# Altium footprint library PCB_OpenT12_精简_2021-10-27.PcbLib: 36 footprints (part 2 of 3)
Each footprint in its own frame and in the unit in brackets; x right, y up, seen from the top. Pads: shape width x height; smd on the part's side, far side on the other; paste and mask are expansions set on the pad; w line width, h text height; cw(c..) or ccw(c..) is an arc to the next point about the centre after c.
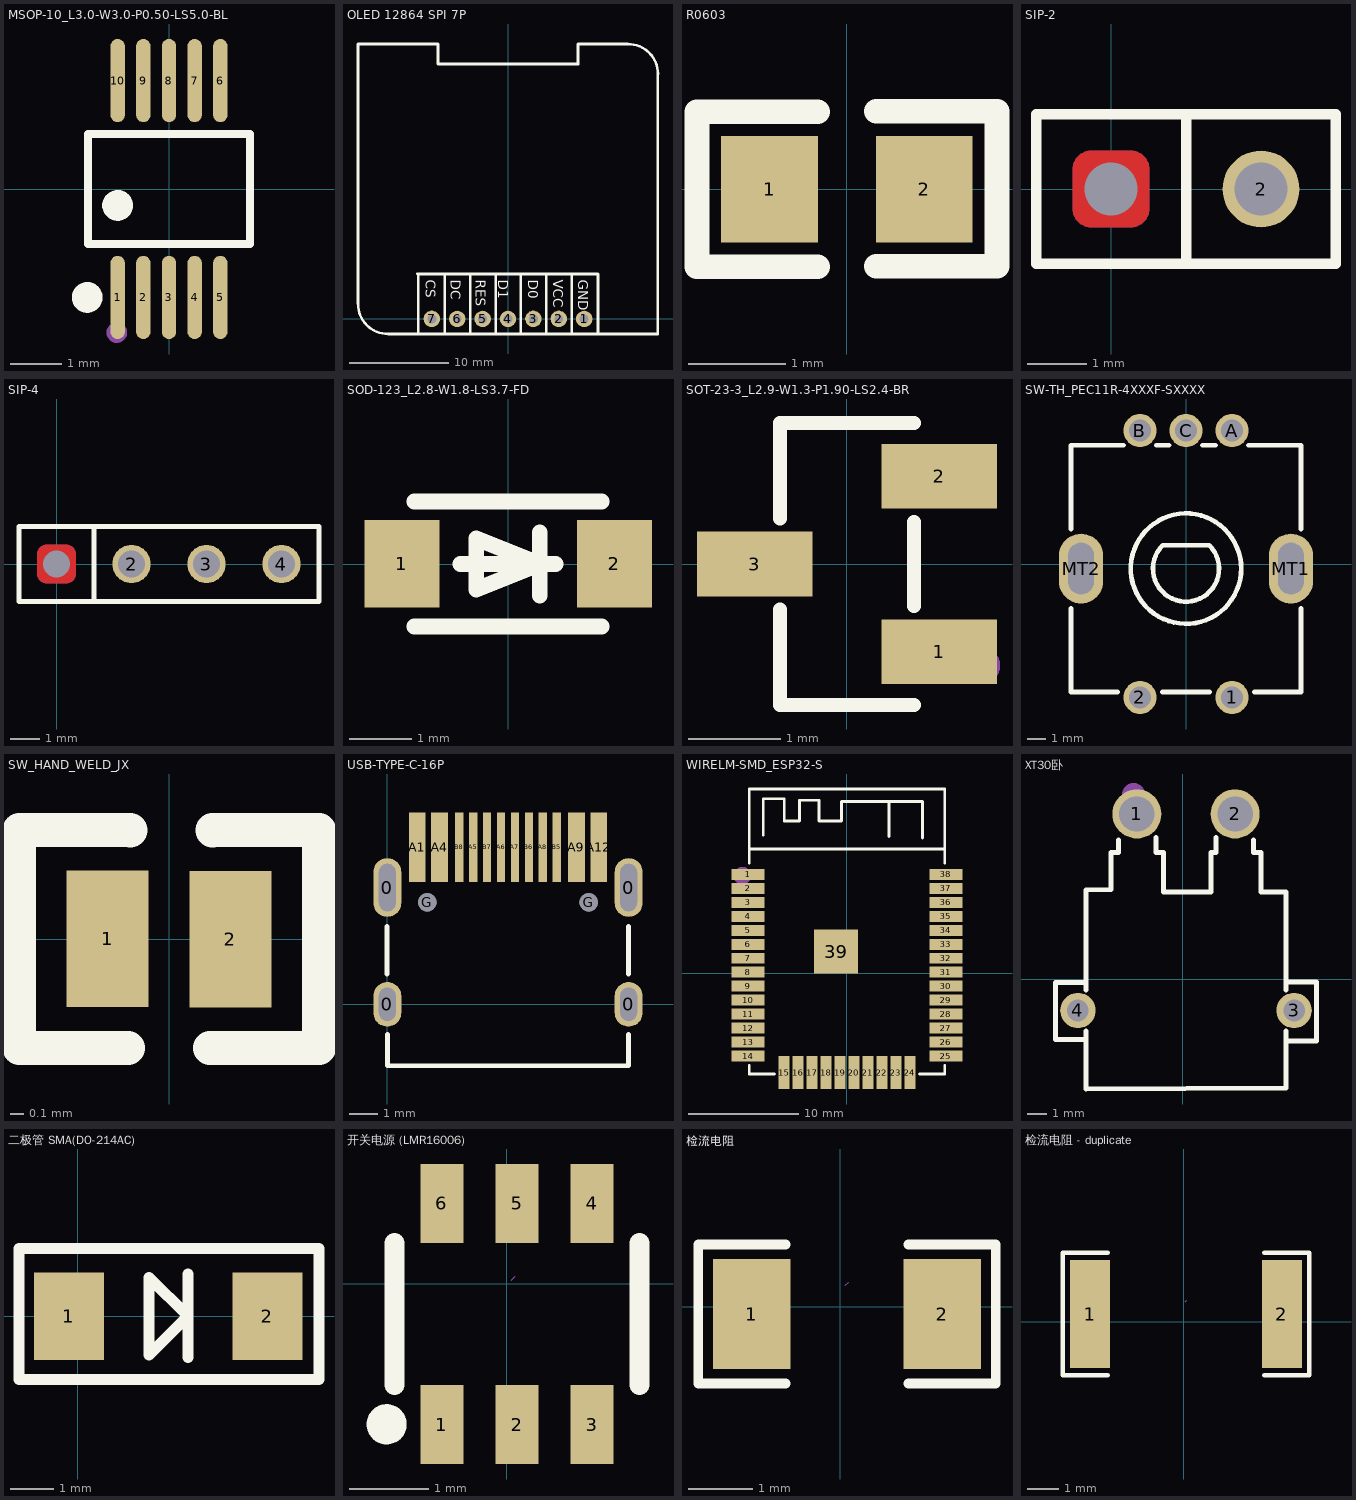
[diagram p1: the footprints below, top view; thin cyan lines are the x and y axes]

## MSOP-10_L3.0-W3.0-P0.50-LS5.0-BL [mm]
pads (10):
  oval 0.28x1.62 smd: 1(-1,-2.11) 2(-0.5,-2.11) 3(0,-2.11) 4(0.5,-2.11) 5(1,-2.11) 6(1,2.11) 7(0.5,2.11) 8(0,2.11) 9(-0.5,2.11) 10(-1,2.11)
Top Overlay:
  circle w0.3: c-1.592,-2.11 r0.15
  circle w0.3: c-1,-0.319 r0.15
  lines w0.152: -1.576,-1.071 1.576,-1.071 1.576,1.071 -1.576,1.071 -1.576,-1.071
Mechanical 15:
  circle w0.2: c-1.016,-2.794 r0.1

## OLED 12864 SPI 7P [mm]
pads (7):
  round 1.65 hole 0.89: 1(7.619,-0.001) 2(5.079,0.004) 3(2.539,0.004) 4(-0.001,-0.004) 5(-2.539,0.001) 6(-5.079,0.001) 7(-7.619,0.004)
Top Overlay:
  lines w0.254: -15.002,1.496 -15.002,27.496 -7.002,27.497 -7.002,25.498 ; -15,1.497 ccw(c-12,1.495) -12,-1.505 ; -11.999,-1.503 14.998,-1.503 14.998,24.496 ; -9.085,4.526 8.915,4.526 ; -8.999,-1.504 -8.999,4.496 9.001,4.496 9.001,-1.504 ; -6.998,25.496 7.002,25.496 ; -6.349,-1.503 -6.349,4.496 ; -3.789,-1.503 -3.789,4.496 ; -1.249,-1.503 -1.249,4.496 ; 1.291,-1.503 1.291,4.496 ; 3.831,-1.503 3.831,4.496 ; 6.371,-1.503 6.371,4.496 ; 7.001,25.496 7.001,27.495 ; 7.001,27.497 12.001,27.497 ; 12,27.497 cw(c12,24.497) 15,24.497
  text "CS" at -8.205,3.927 h1
  text "DC" at -5.703,3.927 h1
  text "RES" at -3.204,3.927 h1
  text "D1" at -0.961,3.927 h1
  text "D0" at 2.046,3.927 h1
  text "VCC" at 4.546,3.927 h1
  text "GND" at 7.048,3.927 h1

## R0603 [mm]
pads (2):
  rect 1x1.1 smd: 1(-0.8,0) 2(0.8,0)
Top Overlay:
  lines w0.254: -0.3,-0.8 -1.55,-0.8 -1.55,0.8 -0.3,0.8 ; 0.301,-0.795 1.551,-0.795 1.551,0.805 0.301,0.805

## SIP-2 [mm]
pads (2):
  round 0 hole 0.9: 1(0,0)
  round 1.3 hole 0.9: 2(2.54,0)
Top Layer:
  region: -0.65,0.325 -0.649,0.349 -0.646,0.373 -0.642,0.397 -0.636,0.421 -0.628,0.444 -0.618,0.466 -0.606,0.488 -0.594,0.508 -0.579,0.528 -0.563,0.546 -0.546,0.563 -0.528,0.579 -0.508,0.594 -0.488,0.606 -0.466,0.618 -0.444,0.628 -0.421,0.636 -0.397,0.642 -0.373,0.646 -0.349,0.649 -0.325,0.65 0.325,0.65 0.349,0.649 0.373,0.646 0.397,0.642 0.421,0.636 0.444,0.628 0.466,0.618 0.488,0.606 0.508,0.594 0.528,0.579 0.546,0.563 0.563,0.546 0.579,0.528 0.594,0.508 0.606,0.488 0.618,0.466 0.628,0.444 0.636,0.421 0.642,0.397 0.646,0.373 0.649,0.349 0.65,0.325 0.65,-0.325 0.649,-0.349 0.646,-0.373 0.642,-0.397 0.636,-0.421 0.628,-0.444 0.618,-0.466 0.606,-0.488 0.594,-0.508 0.579,-0.528 0.563,-0.546 0.546,-0.563 0.528,-0.579 0.508,-0.594 0.488,-0.606 0.466,-0.618 0.444,-0.628 0.421,-0.636 0.397,-0.642 0.373,-0.646 0.349,-0.649 0.325,-0.65 -0.325,-0.65 -0.349,-0.649 -0.373,-0.646 -0.397,-0.642 -0.421,-0.636 -0.444,-0.628 -0.466,-0.618 -0.488,-0.606 -0.508,-0.594 -0.528,-0.579 -0.546,-0.563 -0.563,-0.546 -0.579,-0.528 -0.594,-0.508 -0.606,-0.488 -0.618,-0.466 -0.628,-0.444 -0.636,-0.421 -0.642,-0.397 -0.646,-0.373 -0.649,-0.349 -0.65,-0.325
Bottom Layer:
  region: -0.65,0.325 -0.649,0.349 -0.646,0.373 -0.642,0.397 -0.636,0.421 -0.628,0.444 -0.618,0.466 -0.606,0.488 -0.594,0.508 -0.579,0.528 -0.563,0.546 -0.546,0.563 -0.528,0.579 -0.508,0.594 -0.488,0.606 -0.466,0.618 -0.444,0.628 -0.421,0.636 -0.397,0.642 -0.373,0.646 -0.349,0.649 -0.325,0.65 0.325,0.65 0.349,0.649 0.373,0.646 0.397,0.642 0.421,0.636 0.444,0.628 0.466,0.618 0.488,0.606 0.508,0.594 0.528,0.579 0.546,0.563 0.563,0.546 0.579,0.528 0.594,0.508 0.606,0.488 0.618,0.466 0.628,0.444 0.636,0.421 0.642,0.397 0.646,0.373 0.649,0.349 0.65,0.325 0.65,-0.325 0.649,-0.349 0.646,-0.373 0.642,-0.397 0.636,-0.421 0.628,-0.444 0.618,-0.466 0.606,-0.488 0.594,-0.508 0.579,-0.528 0.563,-0.546 0.546,-0.563 0.528,-0.579 0.508,-0.594 0.488,-0.606 0.466,-0.618 0.444,-0.628 0.421,-0.636 0.397,-0.642 0.373,-0.646 0.349,-0.649 0.325,-0.65 -0.325,-0.65 -0.349,-0.649 -0.373,-0.646 -0.397,-0.642 -0.421,-0.636 -0.444,-0.628 -0.466,-0.618 -0.488,-0.606 -0.508,-0.594 -0.528,-0.579 -0.546,-0.563 -0.563,-0.546 -0.579,-0.528 -0.594,-0.508 -0.606,-0.488 -0.618,-0.466 -0.628,-0.444 -0.636,-0.421 -0.642,-0.397 -0.646,-0.373 -0.649,-0.349 -0.65,-0.325
Top Overlay:
  lines w0.178: 1.27,-1.27 1.27,1.27 ; -1.27,-1.27 -1.27,1.27 3.81,1.27 3.81,-1.27 -1.27,-1.27
Top Paste:
  region: -0.65,0.325 -0.649,0.349 -0.646,0.373 -0.642,0.397 -0.636,0.421 -0.628,0.444 -0.618,0.466 -0.606,0.488 -0.594,0.508 -0.579,0.528 -0.563,0.546 -0.546,0.563 -0.528,0.579 -0.508,0.594 -0.488,0.606 -0.466,0.618 -0.444,0.628 -0.421,0.636 -0.397,0.642 -0.373,0.646 -0.349,0.649 -0.325,0.65 0.325,0.65 0.349,0.649 0.373,0.646 0.397,0.642 0.421,0.636 0.444,0.628 0.466,0.618 0.488,0.606 0.508,0.594 0.528,0.579 0.546,0.563 0.563,0.546 0.579,0.528 0.594,0.508 0.606,0.488 0.618,0.466 0.628,0.444 0.636,0.421 0.642,0.397 0.646,0.373 0.649,0.349 0.65,0.325 0.65,-0.325 0.649,-0.349 0.646,-0.373 0.642,-0.397 0.636,-0.421 0.628,-0.444 0.618,-0.466 0.606,-0.488 0.594,-0.508 0.579,-0.528 0.563,-0.546 0.546,-0.563 0.528,-0.579 0.508,-0.594 0.488,-0.606 0.466,-0.618 0.444,-0.628 0.421,-0.636 0.397,-0.642 0.373,-0.646 0.349,-0.649 0.325,-0.65 -0.325,-0.65 -0.349,-0.649 -0.373,-0.646 -0.397,-0.642 -0.421,-0.636 -0.444,-0.628 -0.466,-0.618 -0.488,-0.606 -0.508,-0.594 -0.528,-0.579 -0.546,-0.563 -0.563,-0.546 -0.579,-0.528 -0.594,-0.508 -0.606,-0.488 -0.618,-0.466 -0.628,-0.444 -0.636,-0.421 -0.642,-0.397 -0.646,-0.373 -0.649,-0.349 -0.65,-0.325
Bottom Paste:
  region: -0.65,0.325 -0.649,0.349 -0.646,0.373 -0.642,0.397 -0.636,0.421 -0.628,0.444 -0.618,0.466 -0.606,0.488 -0.594,0.508 -0.579,0.528 -0.563,0.546 -0.546,0.563 -0.528,0.579 -0.508,0.594 -0.488,0.606 -0.466,0.618 -0.444,0.628 -0.421,0.636 -0.397,0.642 -0.373,0.646 -0.349,0.649 -0.325,0.65 0.325,0.65 0.349,0.649 0.373,0.646 0.397,0.642 0.421,0.636 0.444,0.628 0.466,0.618 0.488,0.606 0.508,0.594 0.528,0.579 0.546,0.563 0.563,0.546 0.579,0.528 0.594,0.508 0.606,0.488 0.618,0.466 0.628,0.444 0.636,0.421 0.642,0.397 0.646,0.373 0.649,0.349 0.65,0.325 0.65,-0.325 0.649,-0.349 0.646,-0.373 0.642,-0.397 0.636,-0.421 0.628,-0.444 0.618,-0.466 0.606,-0.488 0.594,-0.508 0.579,-0.528 0.563,-0.546 0.546,-0.563 0.528,-0.579 0.508,-0.594 0.488,-0.606 0.466,-0.618 0.444,-0.628 0.421,-0.636 0.397,-0.642 0.373,-0.646 0.349,-0.649 0.325,-0.65 -0.325,-0.65 -0.349,-0.649 -0.373,-0.646 -0.397,-0.642 -0.421,-0.636 -0.444,-0.628 -0.466,-0.618 -0.488,-0.606 -0.508,-0.594 -0.528,-0.579 -0.546,-0.563 -0.563,-0.546 -0.579,-0.528 -0.594,-0.508 -0.606,-0.488 -0.618,-0.466 -0.628,-0.444 -0.636,-0.421 -0.642,-0.397 -0.646,-0.373 -0.649,-0.349 -0.65,-0.325
Top Solder:
  region: -0.65,0.325 -0.649,0.349 -0.646,0.373 -0.642,0.397 -0.636,0.421 -0.628,0.444 -0.618,0.466 -0.606,0.488 -0.594,0.508 -0.579,0.528 -0.563,0.546 -0.546,0.563 -0.528,0.579 -0.508,0.594 -0.488,0.606 -0.466,0.618 -0.444,0.628 -0.421,0.636 -0.397,0.642 -0.373,0.646 -0.349,0.649 -0.325,0.65 0.325,0.65 0.349,0.649 0.373,0.646 0.397,0.642 0.421,0.636 0.444,0.628 0.466,0.618 0.488,0.606 0.508,0.594 0.528,0.579 0.546,0.563 0.563,0.546 0.579,0.528 0.594,0.508 0.606,0.488 0.618,0.466 0.628,0.444 0.636,0.421 0.642,0.397 0.646,0.373 0.649,0.349 0.65,0.325 0.65,-0.325 0.649,-0.349 0.646,-0.373 0.642,-0.397 0.636,-0.421 0.628,-0.444 0.618,-0.466 0.606,-0.488 0.594,-0.508 0.579,-0.528 0.563,-0.546 0.546,-0.563 0.528,-0.579 0.508,-0.594 0.488,-0.606 0.466,-0.618 0.444,-0.628 0.421,-0.636 0.397,-0.642 0.373,-0.646 0.349,-0.649 0.325,-0.65 -0.325,-0.65 -0.349,-0.649 -0.373,-0.646 -0.397,-0.642 -0.421,-0.636 -0.444,-0.628 -0.466,-0.618 -0.488,-0.606 -0.508,-0.594 -0.528,-0.579 -0.546,-0.563 -0.563,-0.546 -0.579,-0.528 -0.594,-0.508 -0.606,-0.488 -0.618,-0.466 -0.628,-0.444 -0.636,-0.421 -0.642,-0.397 -0.646,-0.373 -0.649,-0.349 -0.65,-0.325
Bottom Solder:
  region: -0.65,0.325 -0.649,0.349 -0.646,0.373 -0.642,0.397 -0.636,0.421 -0.628,0.444 -0.618,0.466 -0.606,0.488 -0.594,0.508 -0.579,0.528 -0.563,0.546 -0.546,0.563 -0.528,0.579 -0.508,0.594 -0.488,0.606 -0.466,0.618 -0.444,0.628 -0.421,0.636 -0.397,0.642 -0.373,0.646 -0.349,0.649 -0.325,0.65 0.325,0.65 0.349,0.649 0.373,0.646 0.397,0.642 0.421,0.636 0.444,0.628 0.466,0.618 0.488,0.606 0.508,0.594 0.528,0.579 0.546,0.563 0.563,0.546 0.579,0.528 0.594,0.508 0.606,0.488 0.618,0.466 0.628,0.444 0.636,0.421 0.642,0.397 0.646,0.373 0.649,0.349 0.65,0.325 0.65,-0.325 0.649,-0.349 0.646,-0.373 0.642,-0.397 0.636,-0.421 0.628,-0.444 0.618,-0.466 0.606,-0.488 0.594,-0.508 0.579,-0.528 0.563,-0.546 0.546,-0.563 0.528,-0.579 0.508,-0.594 0.488,-0.606 0.466,-0.618 0.444,-0.628 0.421,-0.636 0.397,-0.642 0.373,-0.646 0.349,-0.649 0.325,-0.65 -0.325,-0.65 -0.349,-0.649 -0.373,-0.646 -0.397,-0.642 -0.421,-0.636 -0.444,-0.628 -0.466,-0.618 -0.488,-0.606 -0.508,-0.594 -0.528,-0.579 -0.546,-0.563 -0.563,-0.546 -0.579,-0.528 -0.594,-0.508 -0.606,-0.488 -0.618,-0.466 -0.628,-0.444 -0.636,-0.421 -0.642,-0.397 -0.646,-0.373 -0.649,-0.349 -0.65,-0.325

## SIP-4 [mm]
pads (4):
  round 0 hole 0.9: 1(0,0)
  round 1.3 hole 0.9: 2(2.54,0) 3(5.08,0) 4(7.62,0)
Top Layer:
  region: -0.65,0.325 -0.649,0.349 -0.646,0.373 -0.642,0.397 -0.636,0.421 -0.628,0.444 -0.618,0.466 -0.606,0.488 -0.594,0.508 -0.579,0.528 -0.563,0.546 -0.546,0.563 -0.528,0.579 -0.508,0.594 -0.488,0.606 -0.466,0.618 -0.444,0.628 -0.421,0.636 -0.397,0.642 -0.373,0.646 -0.349,0.649 -0.325,0.65 0.325,0.65 0.349,0.649 0.373,0.646 0.397,0.642 0.421,0.636 0.444,0.628 0.466,0.618 0.488,0.606 0.508,0.594 0.528,0.579 0.546,0.563 0.563,0.546 0.579,0.528 0.594,0.508 0.606,0.488 0.618,0.466 0.628,0.444 0.636,0.421 0.642,0.397 0.646,0.373 0.649,0.349 0.65,0.325 0.65,-0.325 0.649,-0.349 0.646,-0.373 0.642,-0.397 0.636,-0.421 0.628,-0.444 0.618,-0.466 0.606,-0.488 0.594,-0.508 0.579,-0.528 0.563,-0.546 0.546,-0.563 0.528,-0.579 0.508,-0.594 0.488,-0.606 0.466,-0.618 0.444,-0.628 0.421,-0.636 0.397,-0.642 0.373,-0.646 0.349,-0.649 0.325,-0.65 -0.325,-0.65 -0.349,-0.649 -0.373,-0.646 -0.397,-0.642 -0.421,-0.636 -0.444,-0.628 -0.466,-0.618 -0.488,-0.606 -0.508,-0.594 -0.528,-0.579 -0.546,-0.563 -0.563,-0.546 -0.579,-0.528 -0.594,-0.508 -0.606,-0.488 -0.618,-0.466 -0.628,-0.444 -0.636,-0.421 -0.642,-0.397 -0.646,-0.373 -0.649,-0.349 -0.65,-0.325
Bottom Layer:
  region: -0.65,0.325 -0.649,0.349 -0.646,0.373 -0.642,0.397 -0.636,0.421 -0.628,0.444 -0.618,0.466 -0.606,0.488 -0.594,0.508 -0.579,0.528 -0.563,0.546 -0.546,0.563 -0.528,0.579 -0.508,0.594 -0.488,0.606 -0.466,0.618 -0.444,0.628 -0.421,0.636 -0.397,0.642 -0.373,0.646 -0.349,0.649 -0.325,0.65 0.325,0.65 0.349,0.649 0.373,0.646 0.397,0.642 0.421,0.636 0.444,0.628 0.466,0.618 0.488,0.606 0.508,0.594 0.528,0.579 0.546,0.563 0.563,0.546 0.579,0.528 0.594,0.508 0.606,0.488 0.618,0.466 0.628,0.444 0.636,0.421 0.642,0.397 0.646,0.373 0.649,0.349 0.65,0.325 0.65,-0.325 0.649,-0.349 0.646,-0.373 0.642,-0.397 0.636,-0.421 0.628,-0.444 0.618,-0.466 0.606,-0.488 0.594,-0.508 0.579,-0.528 0.563,-0.546 0.546,-0.563 0.528,-0.579 0.508,-0.594 0.488,-0.606 0.466,-0.618 0.444,-0.628 0.421,-0.636 0.397,-0.642 0.373,-0.646 0.349,-0.649 0.325,-0.65 -0.325,-0.65 -0.349,-0.649 -0.373,-0.646 -0.397,-0.642 -0.421,-0.636 -0.444,-0.628 -0.466,-0.618 -0.488,-0.606 -0.508,-0.594 -0.528,-0.579 -0.546,-0.563 -0.563,-0.546 -0.579,-0.528 -0.594,-0.508 -0.606,-0.488 -0.618,-0.466 -0.628,-0.444 -0.636,-0.421 -0.642,-0.397 -0.646,-0.373 -0.649,-0.349 -0.65,-0.325
Top Overlay:
  lines w0.178: 1.27,-1.27 1.27,1.27 ; -1.27,-1.27 -1.27,1.27 8.89,1.27 8.89,-1.27 -1.27,-1.27
Top Paste:
  region: -0.65,0.325 -0.649,0.349 -0.646,0.373 -0.642,0.397 -0.636,0.421 -0.628,0.444 -0.618,0.466 -0.606,0.488 -0.594,0.508 -0.579,0.528 -0.563,0.546 -0.546,0.563 -0.528,0.579 -0.508,0.594 -0.488,0.606 -0.466,0.618 -0.444,0.628 -0.421,0.636 -0.397,0.642 -0.373,0.646 -0.349,0.649 -0.325,0.65 0.325,0.65 0.349,0.649 0.373,0.646 0.397,0.642 0.421,0.636 0.444,0.628 0.466,0.618 0.488,0.606 0.508,0.594 0.528,0.579 0.546,0.563 0.563,0.546 0.579,0.528 0.594,0.508 0.606,0.488 0.618,0.466 0.628,0.444 0.636,0.421 0.642,0.397 0.646,0.373 0.649,0.349 0.65,0.325 0.65,-0.325 0.649,-0.349 0.646,-0.373 0.642,-0.397 0.636,-0.421 0.628,-0.444 0.618,-0.466 0.606,-0.488 0.594,-0.508 0.579,-0.528 0.563,-0.546 0.546,-0.563 0.528,-0.579 0.508,-0.594 0.488,-0.606 0.466,-0.618 0.444,-0.628 0.421,-0.636 0.397,-0.642 0.373,-0.646 0.349,-0.649 0.325,-0.65 -0.325,-0.65 -0.349,-0.649 -0.373,-0.646 -0.397,-0.642 -0.421,-0.636 -0.444,-0.628 -0.466,-0.618 -0.488,-0.606 -0.508,-0.594 -0.528,-0.579 -0.546,-0.563 -0.563,-0.546 -0.579,-0.528 -0.594,-0.508 -0.606,-0.488 -0.618,-0.466 -0.628,-0.444 -0.636,-0.421 -0.642,-0.397 -0.646,-0.373 -0.649,-0.349 -0.65,-0.325
Bottom Paste:
  region: -0.65,0.325 -0.649,0.349 -0.646,0.373 -0.642,0.397 -0.636,0.421 -0.628,0.444 -0.618,0.466 -0.606,0.488 -0.594,0.508 -0.579,0.528 -0.563,0.546 -0.546,0.563 -0.528,0.579 -0.508,0.594 -0.488,0.606 -0.466,0.618 -0.444,0.628 -0.421,0.636 -0.397,0.642 -0.373,0.646 -0.349,0.649 -0.325,0.65 0.325,0.65 0.349,0.649 0.373,0.646 0.397,0.642 0.421,0.636 0.444,0.628 0.466,0.618 0.488,0.606 0.508,0.594 0.528,0.579 0.546,0.563 0.563,0.546 0.579,0.528 0.594,0.508 0.606,0.488 0.618,0.466 0.628,0.444 0.636,0.421 0.642,0.397 0.646,0.373 0.649,0.349 0.65,0.325 0.65,-0.325 0.649,-0.349 0.646,-0.373 0.642,-0.397 0.636,-0.421 0.628,-0.444 0.618,-0.466 0.606,-0.488 0.594,-0.508 0.579,-0.528 0.563,-0.546 0.546,-0.563 0.528,-0.579 0.508,-0.594 0.488,-0.606 0.466,-0.618 0.444,-0.628 0.421,-0.636 0.397,-0.642 0.373,-0.646 0.349,-0.649 0.325,-0.65 -0.325,-0.65 -0.349,-0.649 -0.373,-0.646 -0.397,-0.642 -0.421,-0.636 -0.444,-0.628 -0.466,-0.618 -0.488,-0.606 -0.508,-0.594 -0.528,-0.579 -0.546,-0.563 -0.563,-0.546 -0.579,-0.528 -0.594,-0.508 -0.606,-0.488 -0.618,-0.466 -0.628,-0.444 -0.636,-0.421 -0.642,-0.397 -0.646,-0.373 -0.649,-0.349 -0.65,-0.325
Top Solder:
  region: -0.65,0.325 -0.649,0.349 -0.646,0.373 -0.642,0.397 -0.636,0.421 -0.628,0.444 -0.618,0.466 -0.606,0.488 -0.594,0.508 -0.579,0.528 -0.563,0.546 -0.546,0.563 -0.528,0.579 -0.508,0.594 -0.488,0.606 -0.466,0.618 -0.444,0.628 -0.421,0.636 -0.397,0.642 -0.373,0.646 -0.349,0.649 -0.325,0.65 0.325,0.65 0.349,0.649 0.373,0.646 0.397,0.642 0.421,0.636 0.444,0.628 0.466,0.618 0.488,0.606 0.508,0.594 0.528,0.579 0.546,0.563 0.563,0.546 0.579,0.528 0.594,0.508 0.606,0.488 0.618,0.466 0.628,0.444 0.636,0.421 0.642,0.397 0.646,0.373 0.649,0.349 0.65,0.325 0.65,-0.325 0.649,-0.349 0.646,-0.373 0.642,-0.397 0.636,-0.421 0.628,-0.444 0.618,-0.466 0.606,-0.488 0.594,-0.508 0.579,-0.528 0.563,-0.546 0.546,-0.563 0.528,-0.579 0.508,-0.594 0.488,-0.606 0.466,-0.618 0.444,-0.628 0.421,-0.636 0.397,-0.642 0.373,-0.646 0.349,-0.649 0.325,-0.65 -0.325,-0.65 -0.349,-0.649 -0.373,-0.646 -0.397,-0.642 -0.421,-0.636 -0.444,-0.628 -0.466,-0.618 -0.488,-0.606 -0.508,-0.594 -0.528,-0.579 -0.546,-0.563 -0.563,-0.546 -0.579,-0.528 -0.594,-0.508 -0.606,-0.488 -0.618,-0.466 -0.628,-0.444 -0.636,-0.421 -0.642,-0.397 -0.646,-0.373 -0.649,-0.349 -0.65,-0.325
Bottom Solder:
  region: -0.65,0.325 -0.649,0.349 -0.646,0.373 -0.642,0.397 -0.636,0.421 -0.628,0.444 -0.618,0.466 -0.606,0.488 -0.594,0.508 -0.579,0.528 -0.563,0.546 -0.546,0.563 -0.528,0.579 -0.508,0.594 -0.488,0.606 -0.466,0.618 -0.444,0.628 -0.421,0.636 -0.397,0.642 -0.373,0.646 -0.349,0.649 -0.325,0.65 0.325,0.65 0.349,0.649 0.373,0.646 0.397,0.642 0.421,0.636 0.444,0.628 0.466,0.618 0.488,0.606 0.508,0.594 0.528,0.579 0.546,0.563 0.563,0.546 0.579,0.528 0.594,0.508 0.606,0.488 0.618,0.466 0.628,0.444 0.636,0.421 0.642,0.397 0.646,0.373 0.649,0.349 0.65,0.325 0.65,-0.325 0.649,-0.349 0.646,-0.373 0.642,-0.397 0.636,-0.421 0.628,-0.444 0.618,-0.466 0.606,-0.488 0.594,-0.508 0.579,-0.528 0.563,-0.546 0.546,-0.563 0.528,-0.579 0.508,-0.594 0.488,-0.606 0.466,-0.618 0.444,-0.628 0.421,-0.636 0.397,-0.642 0.373,-0.646 0.349,-0.649 0.325,-0.65 -0.325,-0.65 -0.349,-0.649 -0.373,-0.646 -0.397,-0.642 -0.421,-0.636 -0.444,-0.628 -0.466,-0.618 -0.488,-0.606 -0.508,-0.594 -0.528,-0.579 -0.546,-0.563 -0.563,-0.546 -0.579,-0.528 -0.594,-0.508 -0.606,-0.488 -0.618,-0.466 -0.628,-0.444 -0.636,-0.421 -0.642,-0.397 -0.646,-0.373 -0.649,-0.349 -0.65,-0.325

## SOD-123_L2.8-W1.8-LS3.7-FD [mm]
pads (2):
  rect 1.2x1.4 smd: 1(-1.7,0) 2(1.7,0)
Top Overlay:
  lines w0.254: -1.5,-1 1.5,-1 ; -1.5,1 1.5,1 ; -0.762,0 0.762,0 ; 0.508,-0.508 0.508,0.508 ; -0.508,-0.406 0.508,0 -0.508,0.406 -0.508,-0.406
Mechanical 15:
  region: 1.308,0.141 2.183,0.141 2.183,-0.028 1.308,-0.028 1.308,-0.019
  region: -1.812,-0.378 -1.812,0.497 -1.642,0.497 -1.642,-0.378 -1.652,-0.378
  region: -2.166,0.213 -1.291,0.213 -1.291,0.043 -2.166,0.043 -2.166,0.053

## SOT-23-3_L2.9-W1.3-P1.90-LS2.4-BR [mm]
pads (3):
  rect 1.25x0.7 smd: 1(1,-0.95) 2(1,0.95) 3(-1,0)
Top Overlay:
  lines w0.152: -0.726,-0.495 -0.726,-1.526 0.726,-1.526 ; -0.726,0.495 -0.726,1.526 0.726,1.526 ; 0.726,-0.455 0.726,0.455
Mechanical 15:
  circle w0.2: c1.46,-1.1 r0.1

## SW-TH_PEC11R-4XXXF-SXXXX [mm]
pads (7):
  round 1.8 hole 1.2: 1(2.5,-7.25) 2(-2.5,-7.25) A(2.5,7.25) B(-2.5,7.25) C(0,7.25)
  oval 2.4x3.8 hole 1.4 slot 2.8 at 90 deg: MT1(5.7,-0.25) MT2(-5.7,-0.25)
Top Overlay:
  circle w0.254: c0,-0.25 r3
  lines w0.254: -6.25,-6.95 -3.7,-6.95 ; -6.25,-6.95 -6.25,-2.4 ; -6.25,1.9 -6.25,6.45 -3.4,6.45 ; -1.62,6.45 -0.92,6.45 ; -1.275,-6.95 1.275,-6.95 ; 0.9,6.45 1.6,6.45 ; 3.4,6.45 6.25,6.45 6.25,1.9 ; 3.7,-6.95 6.25,-6.95 6.25,-2.4 ; -1.27,1.02 ccw(c0,-0.25) 1.27,1.02 -1.27,1.02

## SW_HAND_WELD_JX [mm]
pads (2):
  rect 0.6x1 smd: 1(-0.45,0.002) 2(0.45,-0.003)
Top Overlay:
  lines w0.25: -0.3,-0.8 -1.1,-0.8 -1.1,0.8 -0.284,0.797 ; 0.3,-0.8 1.1,-0.8 1.1,0.8 0.318,0.797

## USB-TYPE-C-16P [mm]
pads (18):
  oval 1x1.6 hole 0.6 slot 1.2 at 90 deg: 0(0,0) 0(8.64,0)
  oval 1x2.1 hole 0.6 slot 1.7 at 90 deg: 0(0,4.18) 0(8.64,4.18)
  rect 0.6x2.5 smd: A1(1.07,5.625) A4(1.87,5.625) A9(6.77,5.625) A12(7.57,5.625)
  rect 0.3x2.5 smd: A5(3.07,5.625) A6(4.07,5.625) A7(4.57,5.625) A8(5.57,5.625) B5(6.07,5.625) B6(5.07,5.625) B7(3.57,5.625) B8(2.57,5.625)
  round 0.65 hole 0.65 slot 0.655 at 90 deg: G(1.43,3.65) G(7.21,3.65)
Top Overlay:
  lines w0.178: -0.01,1.09 -0.01,2.79 ; 0,-1.08 0,-2.2 8.64,-2.2 8.64,-1.08 ; 8.63,1.09 8.63,2.79

## WIRELM-SMD_ESP32-S [mm]
pads (39):
  rect 3x1 smd: 1(-9,9.005) 2(-9,7.735) 3(-9,6.465) 4(-9,5.195) 5(-9,3.925) 6(-9,2.655) 7(-9,1.385) 8(-9,0.115) 9(-9,-1.155) 10(-9,-2.425) 11(-9,-3.695) 12(-9,-4.965) 13(-9,-6.235) 14(-9,-7.505) 25(9,-7.505) 26(9,-6.235) 27(9,-4.965) 28(9,-3.695) 29(9,-2.425) 30(9,-1.155) 31(9,0.115) 32(9,1.385) 33(9,2.655) 34(9,3.925) 35(9,5.195) 36(9,6.465) 37(9,7.735) 38(9,9.005)
  rect 1x3 smd: 15(-5.715,-9.005) 16(-4.445,-9.005) 17(-3.175,-9.005) 18(-1.905,-9.005) 19(-0.635,-9.005) 20(0.635,-9.005) 21(1.905,-9.005) 22(3.175,-9.005) 23(4.445,-9.005) 24(5.715,-9.005)
  rect 4x4 smd: 39(-1,1.995)
Top Overlay:
  lines w0.254: -8.89,-8.37 -8.89,-9.132 -6.604,-9.132 ; -8.89,10.045 -8.89,16.776 8.89,16.776 8.89,10.045 ; -8.89,11.315 8.89,11.315 ; -7.62,12.584 -7.62,15.886 -5.715,15.886 -5.715,13.854 -4.318,13.854 -4.318,15.759 -2.54,15.759 -2.54,13.854 -0.508,13.854 -0.508,15.632 6.858,15.632 6.858,12.33 ; 3.81,12.458 3.81,15.633 ; 6.604,-9.132 8.89,-9.132 8.89,-8.37
Mechanical 15:
  circle w0.8: c-9.525,8.89 r0.4

## XT30卧 [mm]
pads (4):
  round 2.5 hole 1.8: 1(-2.327,8.407) 2(2.673,8.407)
  round 1.8 hole 1.1: 3(5.673,-1.593) 4(-5.327,-1.593)
Top Overlay:
  lines w0.254: -4.907,-3.073 -6.477,-3.073 -6.477,-0.178 -4.907,-0.178 ; -4.907,-2.643 -4.907,-5.588 5.253,-5.543 5.253,-2.643 ; -4.907,-0.543 -4.907,3.454 -4.907,4.55 -3.637,4.55 -3.637,6.455 -3.256,6.455 -3.256,7.09 ; -1.351,7.217 -1.351,6.455 -0.97,6.455 -0.97,4.423 1.443,4.423 1.443,6.455 1.697,6.455 1.697,7.217 ; 3.602,7.09 3.602,6.455 3.983,6.455 3.983,4.423 5.253,4.423 5.253,3.454 5.253,-0.543 ; 5.253,-3.143 6.823,-3.143 6.823,-0.152 5.253,-0.152
Mechanical 15:
  circle w0.6: c-2.494,9.376 r0.3

## 二极管 SMA(DO-214AC) [mil]
pads (2):
  rect 63x78.74 smd: 1(-8,0) 2(170.56,0)
Top Overlay:
  lines w10: 99,-37 99,38 ; -53,-57 217,-57 217,61 -53,61 -53,-57 ; 64,-35 99,0 64,35 64,-35
3D body "DO-214AC.STEP": height 94.49, standoff 0, extent -7.55,-52.15 173.55,54.15

## 开关电源 (LMR16006) [mm]
pads (6):
  rect 0.55x1 smd: 1(-0.823,-1.786) 2(0.127,-1.786) 3(1.077,-1.786) 4(1.077,1.014) 5(0.127,1.014) 6(-0.823,1.014)
Top Overlay:
  circle w0.254: c-1.524,-1.783 r0.127
  lines w0.254: -1.423,-1.286 -1.423,0.514 ; 1.677,-1.286 1.677,0.514
Mechanical 15:
  lines w0.003: 0.051,0.042 0.102,0.093

## 检流电阻 [mm]
pads (2):
  rect 1.208x1.701 smd: 1(-1.377,-0.115) 2(1.58,-0.115)
Top Overlay:
  lines w0.152: -0.85,-1.194 -2.21,-1.194 -2.21,0.964 -0.85,0.964 ; 1.053,-1.194 2.412,-1.194 2.412,0.964 1.053,0.964
Top Paste:
  region: -0.774,-0.865 -0.774,-0.504 -0.874,-0.404 -1.084,-0.404 -1.184,-0.304 -1.184,0.074 -1.084,0.174 -0.874,0.174 -0.774,0.274 -0.774,0.636 -0.874,0.736 -1.881,0.736 -1.981,0.636 -1.981,-0.865 -1.881,-0.965 -0.874,-0.965
  region: 0.976,-0.865 0.976,-0.504 1.076,-0.404 1.287,-0.404 1.387,-0.304 1.387,0.074 1.287,0.174 1.076,0.174 0.976,0.274 0.976,0.636 1.076,0.736 2.084,0.736 2.184,0.636 2.184,-0.865 2.084,-0.965 1.076,-0.965
Mechanical 15:
  lines w0.003: 0.076,0.33 0.127,0.381

## 检流电阻 - duplicate [mm] "2512"
pads (2):
  rect 1.283x3.456 smd: 1(-2.991,0.255) 2(3.142,0.255)
Top Overlay:
  lines w0.152: -2.426,-1.702 -3.861,-1.702 -3.861,2.211 -2.426,2.211 ; 2.577,-1.702 4.011,-1.702 4.011,2.211 2.577,2.211
Top Paste:
  region: 2.5,-1.373 2.5,-0.433 2.6,-0.333 2.836,-0.333 2.936,-0.233 2.936,0.742 2.836,0.842 2.6,0.842 2.5,0.942 2.5,1.883 2.6,1.983 3.683,1.983 3.783,1.883 3.783,-1.373 3.683,-1.473 2.6,-1.473
  region: -2.35,-1.373 -2.35,-0.433 -2.45,-0.333 -2.686,-0.333 -2.786,-0.233 -2.786,0.742 -2.686,0.842 -2.45,0.842 -2.35,0.942 -2.35,1.883 -2.45,1.983 -3.532,1.983 -3.632,1.883 -3.632,-1.373 -3.532,-1.473 -2.45,-1.473
Mechanical 15:
  lines w0.003: 0.05,0.642 0.101,0.693